# Altium integrated library AC0603FR-0724K9L.IntLib: 1 symbol
Pins are listed as number, name and electrical type; pins without a type are passive.

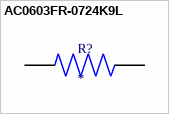
[diagram p0: symbol AC0603FR-0724K9L]

## AC0603FR-0724K9L
designator R?
AC0603 24,9K 1% 0,1W AUTOMO; MP: AC0603FR-0724K9L; Package: None; Price: None; Value: *; Availability: Unavailable
footprint RESC1608X55N
pins: 1, 2